# Altium footprint library KN_ECART.PcbLib: 34 footprints (part 3 of 3)
Each footprint in its own frame and in the unit in brackets; x right, y up, seen from the top. Pads: shape width x height; smd on the part's side, far side on the other; paste and mask are expansions set on the pad; w line width, h text height; cw(c..) or ccw(c..) is an arc to the next point about the centre after c.
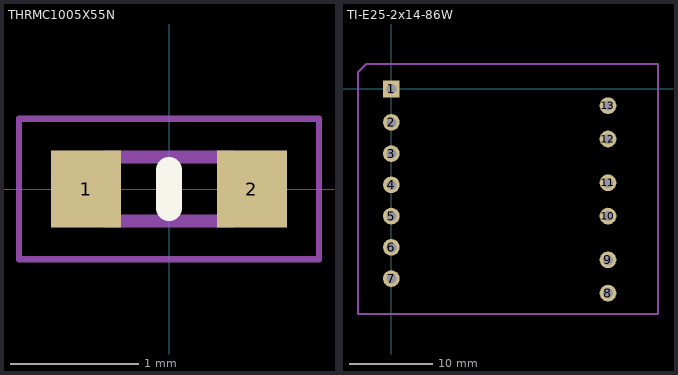
[diagram p2: the footprints below, top view; thin cyan lines are the x and y axes]

## THRMC1005X55N [mm]
pads (2):
  rect 0.55x0.6 smd: 1(-0.65,0) 2(0.65,0)
Top Overlay:
  lines w0.2: 0,-0.15 0,0.15
Mechanical 13:
  lines w0.1: -0.5,-0.25 -0.5,0.25 0.5,0.25 0.5,-0.25 -0.5,-0.25
Mechanical 15:
  lines w0.05: -1.175,-0.55 -1.175,0.55 1.175,0.55 1.175,-0.55 -1.175,-0.55
3D body "NTCG104EF104FT1SX.stp": height 0.55, standoff 0, extent -0.5,-0.25 0.5,0.25

## TI­E25­2x14­86W [mm] "Transformer"
pads (13):
  rect 2x2 hole 1.2: 1(0,0)
  round 2 hole 1.2: 2(0,-4) 3(0,-7.75) 4(0,-11.5) 5(0,-15.25) 6(0,-19) 7(0,-22.75) 8(26,-24.5) 9(26,-20.5) 10(26,-15.25) 11(26,-11.25) 12(26,-6) 13(26,-2)
Mechanical 15:
  lines w0.254: -4,-27 0,-27 26,-27 32,-27 32,3 -3,3 -4,2 -4,1 -4,-27
3D body "E25_11-K-H-13P-WZ2589_z³o¿enie.STEP": height 25.55, standoff -3.55, extent -3.275,-27.2 29.275,0.5